# Altium footprint library QFP_Thin_Sq_65P_Side_L.PcbLib: 6 footprints
Each footprint in its own frame and in the unit in brackets; x right, y up, seen from the top. Pads: shape width x height; smd on the part's side, far side on the other; paste and mask are expansions set on the pad; w line width, h text height; cw(c..) or ccw(c..) is an arc to the next point about the centre after c.
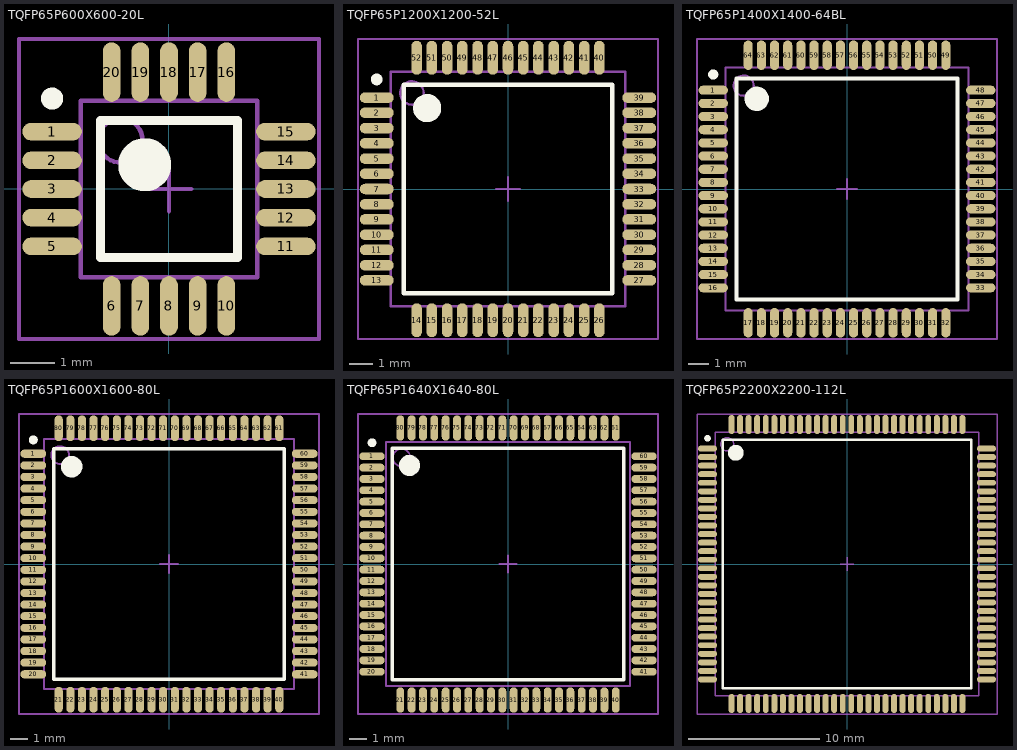
[diagram p0: the footprints below, top view; thin cyan lines are the x and y axes]

## TQFP65P600X600-20L [mm] "Thin QFP, 20-Leads, Body 4 x 4mm, Pitch 0.65mm, IPC High Density"
height 1.6
pads (20):
  oval 1.35x0.4 smd: 1(-2.65,1.3) 2(-2.65,0.65) 3(-2.65,0) 4(-2.65,-0.65) 5(-2.65,-1.3) 11(2.65,-1.3) 12(2.65,-0.65) 13(2.65,0) 14(2.65,0.65) 15(2.65,1.3)
  oval 0.4x1.35 smd: 6(-1.3,-2.65) 7(-0.65,-2.65) 8(0,-2.65) 9(0.65,-2.65) 10(1.3,-2.65) 16(1.3,2.65) 17(0.65,2.65) 18(0,2.65) 19(-0.65,2.65) 20(-1.3,2.65)
Top Overlay:
  circle w0.6: c-0.55,0.55 r0.3
  circle w0.25: c-2.65,2.05 r0.125
  lines w0.2: -1.55,-1.55 1.55,-1.55 1.55,1.55 -1.55,1.55 -1.55,-1.55
Mechanical 13:
  circle w0.1: c-1.1,1.1 r0.5
  lines w0.1: -2,-2 2,-2 2,2 -2,2 -2,-2
Mechanical 15:
  lines w0.1: -0.5,0 0.5,0 ; 0,-0.5 0,0.5 ; -3.4,-3.4 3.4,-3.4 3.4,3.4 -3.4,3.4 -3.4,-3.4
3D body: height 1.6, standoff 0, extent -2,-2 2,2

## TQFP65P1200X1200-52L [mm] "Thin QFP, 52-Leads, Body 10 x 10mm, Pitch 0.65mm, IPC High Density"
height 1.2
pads (52):
  oval 1.45x0.45 smd: 1(-5.6,3.9) 2(-5.6,3.25) 3(-5.6,2.6) 4(-5.6,1.95) 5(-5.6,1.3) 6(-5.6,0.65) 7(-5.6,0) 8(-5.6,-0.65) 9(-5.6,-1.3) 10(-5.6,-1.95) 11(-5.6,-2.6) 12(-5.6,-3.25) 13(-5.6,-3.9) 27(5.6,-3.9) 28(5.6,-3.25) 29(5.6,-2.6) 30(5.6,-1.95) 31(5.6,-1.3) 32(5.6,-0.65) 33(5.6,0) 34(5.6,0.65) 35(5.6,1.3) 36(5.6,1.95) 37(5.6,2.6) 38(5.6,3.25) 39(5.6,3.9)
  oval 0.45x1.45 smd: 14(-3.9,-5.6) 15(-3.25,-5.6) 16(-2.6,-5.6) 17(-1.95,-5.6) 18(-1.3,-5.6) 19(-0.65,-5.6) 20(0,-5.6) 21(0.65,-5.6) 22(1.3,-5.6) 23(1.95,-5.6) 24(2.6,-5.6) 25(3.25,-5.6) 26(3.9,-5.6) 40(3.9,5.6) 41(3.25,5.6) 42(2.6,5.6) 43(1.95,5.6) 44(1.3,5.6) 45(0.65,5.6) 46(0,5.6) 47(-0.65,5.6) 48(-1.3,5.6) 49(-1.95,5.6) 50(-2.6,5.6) 51(-3.25,5.6) 52(-3.9,5.6)
Top Overlay:
  circle w0.25: c-5.6,4.675 r0.125
  circle w0.6: c-3.45,3.45 r0.3
  lines w0.2: -4.45,-4.45 -4.45,4.45 4.45,4.45 4.45,-4.45 -4.45,-4.45
Mechanical 13:
  circle w0.1: c-4.1,4.1 r0.5
  lines w0.1: -5,-5 -5,5 5,5 5,-5 -5,-5
Mechanical 15:
  lines w0.1: -0.5,0 0.5,0 ; 0,-0.5 0,0.5 ; -6.4,-6.4 -6.4,6.4 6.4,6.4 6.4,-6.4 -6.4,-6.4
3D body: height 1.2, standoff 0, extent -5,-5 5,5

## TQFP65P1400X1400-64BL [mm] "Thin QFP, 64-Leads, Body 12 x 12mm, Pitch 0.65mm, IPC High Density"
height 1.2
pads (64):
  oval 1.45x0.45 smd: 1(-6.6,4.875) 2(-6.6,4.225) 3(-6.6,3.575) 4(-6.6,2.925) 5(-6.6,2.275) 6(-6.6,1.625) 7(-6.6,0.975) 8(-6.6,0.325) 9(-6.6,-0.325) 10(-6.6,-0.975) 11(-6.6,-1.625) 12(-6.6,-2.275) 13(-6.6,-2.925) 14(-6.6,-3.575) 15(-6.6,-4.225) 16(-6.6,-4.875) 33(6.6,-4.875) 34(6.6,-4.225) 35(6.6,-3.575) 36(6.6,-2.925) 37(6.6,-2.275) 38(6.6,-1.625) 39(6.6,-0.975) 40(6.6,-0.325) 41(6.6,0.325) 42(6.6,0.975) 43(6.6,1.625) 44(6.6,2.275) 45(6.6,2.925) 46(6.6,3.575) 47(6.6,4.225) 48(6.6,4.875)
  oval 0.45x1.45 smd: 17(-4.875,-6.6) 18(-4.225,-6.6) 19(-3.575,-6.6) 20(-2.925,-6.6) 21(-2.275,-6.6) 22(-1.625,-6.6) 23(-0.975,-6.6) 24(-0.325,-6.6) 25(0.325,-6.6) 26(0.975,-6.6) 27(1.625,-6.6) 28(2.275,-6.6) 29(2.925,-6.6) 30(3.575,-6.6) 31(4.225,-6.6) 32(4.875,-6.6) 49(4.875,6.6) 50(4.225,6.6) 51(3.575,6.6) 52(2.925,6.6) 53(2.275,6.6) 54(1.625,6.6) 55(0.975,6.6) 56(0.325,6.6) 57(-0.325,6.6) 58(-0.975,6.6) 59(-1.625,6.6) 60(-2.275,6.6) 61(-2.925,6.6) 62(-3.575,6.6) 63(-4.225,6.6) 64(-4.875,6.6)
Top Overlay:
  circle w0.25: c-6.6,5.65 r0.125
  circle w0.6: c-4.45,4.45 r0.3
  lines w0.2: -5.45,-5.45 -5.45,5.45 5.45,5.45 5.45,-5.45 -5.45,-5.45
Mechanical 13:
  circle w0.1: c-5.1,5.1 r0.5
  lines w0.1: -6,-6 -6,6 6,6 6,-6 -6,-6
Mechanical 15:
  lines w0.1: -0.5,0 0.5,0 ; 0,-0.5 0,0.5 ; -7.4,-7.4 -7.4,7.4 7.4,7.4 7.4,-7.4 -7.4,-7.4
3D body: height 1.2, standoff 0, extent -6,-6 6,6

## TQFP65P1600X1600-80L [mm] "Thin QFP, 80-Leads, Body 14 x 14mm, Pitch 0.65mm, IPC High Density"
height 1.2
pads (80):
  oval 1.45x0.45 smd: 1(-7.6,6.175) 2(-7.6,5.525) 3(-7.6,4.875) 4(-7.6,4.225) 5(-7.6,3.575) 6(-7.6,2.925) 7(-7.6,2.275) 8(-7.6,1.625) 9(-7.6,0.975) 10(-7.6,0.325) 11(-7.6,-0.325) 12(-7.6,-0.975) 13(-7.6,-1.625) 14(-7.6,-2.275) 15(-7.6,-2.925) 16(-7.6,-3.575) 17(-7.6,-4.225) 18(-7.6,-4.875) 19(-7.6,-5.525) 20(-7.6,-6.175) 41(7.6,-6.175) 42(7.6,-5.525) 43(7.6,-4.875) 44(7.6,-4.225) 45(7.6,-3.575) 46(7.6,-2.925) 47(7.6,-2.275) 48(7.6,-1.625) 49(7.6,-0.975) 50(7.6,-0.325) 51(7.6,0.325) 52(7.6,0.975) 53(7.6,1.625) 54(7.6,2.275) 55(7.6,2.925) 56(7.6,3.575) 57(7.6,4.225) 58(7.6,4.875) 59(7.6,5.525) 60(7.6,6.175)
  oval 0.45x1.45 smd: 21(-6.175,-7.6) 22(-5.525,-7.6) 23(-4.875,-7.6) 24(-4.225,-7.6) 25(-3.575,-7.6) 26(-2.925,-7.6) 27(-2.275,-7.6) 28(-1.625,-7.6) 29(-0.975,-7.6) 30(-0.325,-7.6) 31(0.325,-7.6) 32(0.975,-7.6) 33(1.625,-7.6) 34(2.275,-7.6) 35(2.925,-7.6) 36(3.575,-7.6) 37(4.225,-7.6) 38(4.875,-7.6) 39(5.525,-7.6) 40(6.175,-7.6) 61(6.175,7.6) 62(5.525,7.6) 63(4.875,7.6) 64(4.225,7.6) 65(3.575,7.6) 66(2.925,7.6) 67(2.275,7.6) 68(1.625,7.6) 69(0.975,7.6) 70(0.325,7.6) 71(-0.325,7.6) 72(-0.975,7.6) 73(-1.625,7.6) 74(-2.275,7.6) 75(-2.925,7.6) 76(-3.575,7.6) 77(-4.225,7.6) 78(-4.875,7.6) 79(-5.525,7.6) 80(-6.175,7.6)
Top Overlay:
  circle w0.25: c-7.6,6.95 r0.125
  circle w0.6: c-5.45,5.45 r0.3
  lines w0.2: -6.45,-6.45 -6.45,6.45 6.45,6.45 6.45,-6.45 -6.45,-6.45
Mechanical 13:
  circle w0.1: c-6.1,6.1 r0.5
  lines w0.1: -7,-7 -7,7 7,7 7,-7 -7,-7
Mechanical 15:
  lines w0.1: -0.5,0 0.5,0 ; 0,-0.5 0,0.5 ; -8.4,-8.4 -8.4,8.4 8.4,8.4 8.4,-8.4 -8.4,-8.4
3D body: height 1.2, standoff 0, extent -7,-7 7,7

## TQFP65P1640X1640-80L [mm] "Thin QFP, 80-Leads, Body 14 x 14mm, Pitch 0.65mm, IPC High Density"
height 1.6
pads (80):
  oval 1.45x0.45 smd: 1(-7.8,6.175) 2(-7.8,5.525) 3(-7.8,4.875) 4(-7.8,4.225) 5(-7.8,3.575) 6(-7.8,2.925) 7(-7.8,2.275) 8(-7.8,1.625) 9(-7.8,0.975) 10(-7.8,0.325) 11(-7.8,-0.325) 12(-7.8,-0.975) 13(-7.8,-1.625) 14(-7.8,-2.275) 15(-7.8,-2.925) 16(-7.8,-3.575) 17(-7.8,-4.225) 18(-7.8,-4.875) 19(-7.8,-5.525) 20(-7.8,-6.175) 41(7.8,-6.175) 42(7.8,-5.525) 43(7.8,-4.875) 44(7.8,-4.225) 45(7.8,-3.575) 46(7.8,-2.925) 47(7.8,-2.275) 48(7.8,-1.625) 49(7.8,-0.975) 50(7.8,-0.325) 51(7.8,0.325) 52(7.8,0.975) 53(7.8,1.625) 54(7.8,2.275) 55(7.8,2.925) 56(7.8,3.575) 57(7.8,4.225) 58(7.8,4.875) 59(7.8,5.525) 60(7.8,6.175)
  oval 0.45x1.45 smd: 21(-6.175,-7.8) 22(-5.525,-7.8) 23(-4.875,-7.8) 24(-4.225,-7.8) 25(-3.575,-7.8) 26(-2.925,-7.8) 27(-2.275,-7.8) 28(-1.625,-7.8) 29(-0.975,-7.8) 30(-0.325,-7.8) 31(0.325,-7.8) 32(0.975,-7.8) 33(1.625,-7.8) 34(2.275,-7.8) 35(2.925,-7.8) 36(3.575,-7.8) 37(4.225,-7.8) 38(4.875,-7.8) 39(5.525,-7.8) 40(6.175,-7.8) 61(6.175,7.8) 62(5.525,7.8) 63(4.875,7.8) 64(4.225,7.8) 65(3.575,7.8) 66(2.925,7.8) 67(2.275,7.8) 68(1.625,7.8) 69(0.975,7.8) 70(0.325,7.8) 71(-0.325,7.8) 72(-0.975,7.8) 73(-1.625,7.8) 74(-2.275,7.8) 75(-2.925,7.8) 76(-3.575,7.8) 77(-4.225,7.8) 78(-4.875,7.8) 79(-5.525,7.8) 80(-6.175,7.8)
Top Overlay:
  circle w0.25: c-7.8,6.95 r0.125
  circle w0.6: c-5.65,5.65 r0.3
  lines w0.2: -6.65,-6.65 -6.65,6.65 6.65,6.65 6.65,-6.65 -6.65,-6.65
Mechanical 13:
  circle w0.1: c-6.1,6.1 r0.5
  lines w0.1: -7,-7 -7,7 7,7 7,-7 -7,-7
Mechanical 15:
  lines w0.1: -0.5,0 0.5,0 ; 0,-0.5 0,0.5 ; -8.6,-8.6 -8.6,8.6 8.6,8.6 8.6,-8.6 -8.6,-8.6
3D body: height 1.6, standoff 0, extent -7,-7 7,7

## TQFP65P2200X2200-112L [mm] "Thin QFP, 112-Leads, Body 20 x 20mm, Pitch 0.65mm, IPC High Density"
height 1.2
pads (112):
  oval 1.45x0.45 smd: 1(-10.6,8.775) 2(-10.6,8.125) 3(-10.6,7.475) 4(-10.6,6.825) 5(-10.6,6.175) 6(-10.6,5.525) 7(-10.6,4.875) 8(-10.6,4.225) 9(-10.6,3.575) 10(-10.6,2.925) 11(-10.6,2.275) 12(-10.6,1.625) 13(-10.6,0.975) 14(-10.6,0.325) 15(-10.6,-0.325) 16(-10.6,-0.975) 17(-10.6,-1.625) 18(-10.6,-2.275) 19(-10.6,-2.925) 20(-10.6,-3.575) 21(-10.6,-4.225) 22(-10.6,-4.875) 23(-10.6,-5.525) 24(-10.6,-6.175) 25(-10.6,-6.825) 26(-10.6,-7.475) 27(-10.6,-8.125) 28(-10.6,-8.775) 57(10.6,-8.775) 58(10.6,-8.125) 59(10.6,-7.475) 60(10.6,-6.825) 61(10.6,-6.175) 62(10.6,-5.525) 63(10.6,-4.875) 64(10.6,-4.225) 65(10.6,-3.575) 66(10.6,-2.925) 67(10.6,-2.275) 68(10.6,-1.625) 69(10.6,-0.975) 70(10.6,-0.325) 71(10.6,0.325) 72(10.6,0.975) 73(10.6,1.625) 74(10.6,2.275) 75(10.6,2.925) 76(10.6,3.575) 77(10.6,4.225) 78(10.6,4.875) 79(10.6,5.525) 80(10.6,6.175) 81(10.6,6.825) 82(10.6,7.475) 83(10.6,8.125) 84(10.6,8.775)
  oval 0.45x1.45 smd: 29(-8.775,-10.6) 30(-8.125,-10.6) 31(-7.475,-10.6) 32(-6.825,-10.6) 33(-6.175,-10.6) 34(-5.525,-10.6) 35(-4.875,-10.6) 36(-4.225,-10.6) 37(-3.575,-10.6) 38(-2.925,-10.6) 39(-2.275,-10.6) 40(-1.625,-10.6) 41(-0.975,-10.6) 42(-0.325,-10.6) 43(0.325,-10.6) 44(0.975,-10.6) 45(1.625,-10.6) 46(2.275,-10.6) 47(2.925,-10.6) 48(3.575,-10.6) 49(4.225,-10.6) 50(4.875,-10.6) 51(5.525,-10.6) 52(6.175,-10.6) 53(6.825,-10.6) 54(7.475,-10.6) 55(8.125,-10.6) 56(8.775,-10.6) 85(8.775,10.6) 86(8.125,10.6) 87(7.475,10.6) 88(6.825,10.6) 89(6.175,10.6) 90(5.525,10.6) 91(4.875,10.6) 92(4.225,10.6) 93(3.575,10.6) 94(2.925,10.6) 95(2.275,10.6) 96(1.625,10.6) 97(0.975,10.6) 98(0.325,10.6) 99(-0.325,10.6) 100(-0.975,10.6) 101(-1.625,10.6) 102(-2.275,10.6) 103(-2.925,10.6) 104(-3.575,10.6) 105(-4.225,10.6) 106(-4.875,10.6) 107(-5.525,10.6) 108(-6.175,10.6) 109(-6.825,10.6) 110(-7.475,10.6) 111(-8.125,10.6) 112(-8.775,10.6)
Top Overlay:
  circle w0.6: c-8.45,8.45 r0.3
  circle w0.25: c-10.6,9.55 r0.125
  lines w0.2: -9.45,-9.45 9.45,-9.45 9.45,9.45 -9.45,9.45 -9.45,-9.45
Mechanical 13:
  circle w0.1: c-9.1,9.1 r0.5
  lines w0.1: -10,-10 10,-10 10,10 -10,10 -10,-10
Mechanical 15:
  lines w0.1: -0.5,0 0.5,0 ; 0,-0.5 0,0.5 ; -11.4,-11.4 11.4,-11.4 11.4,11.4 -11.4,11.4 -11.4,-11.4
3D body: height 1.2, standoff 0, extent -10,-10 10,10